# EAGLE library part IMXRT1062DV_V2 (library tft_display)
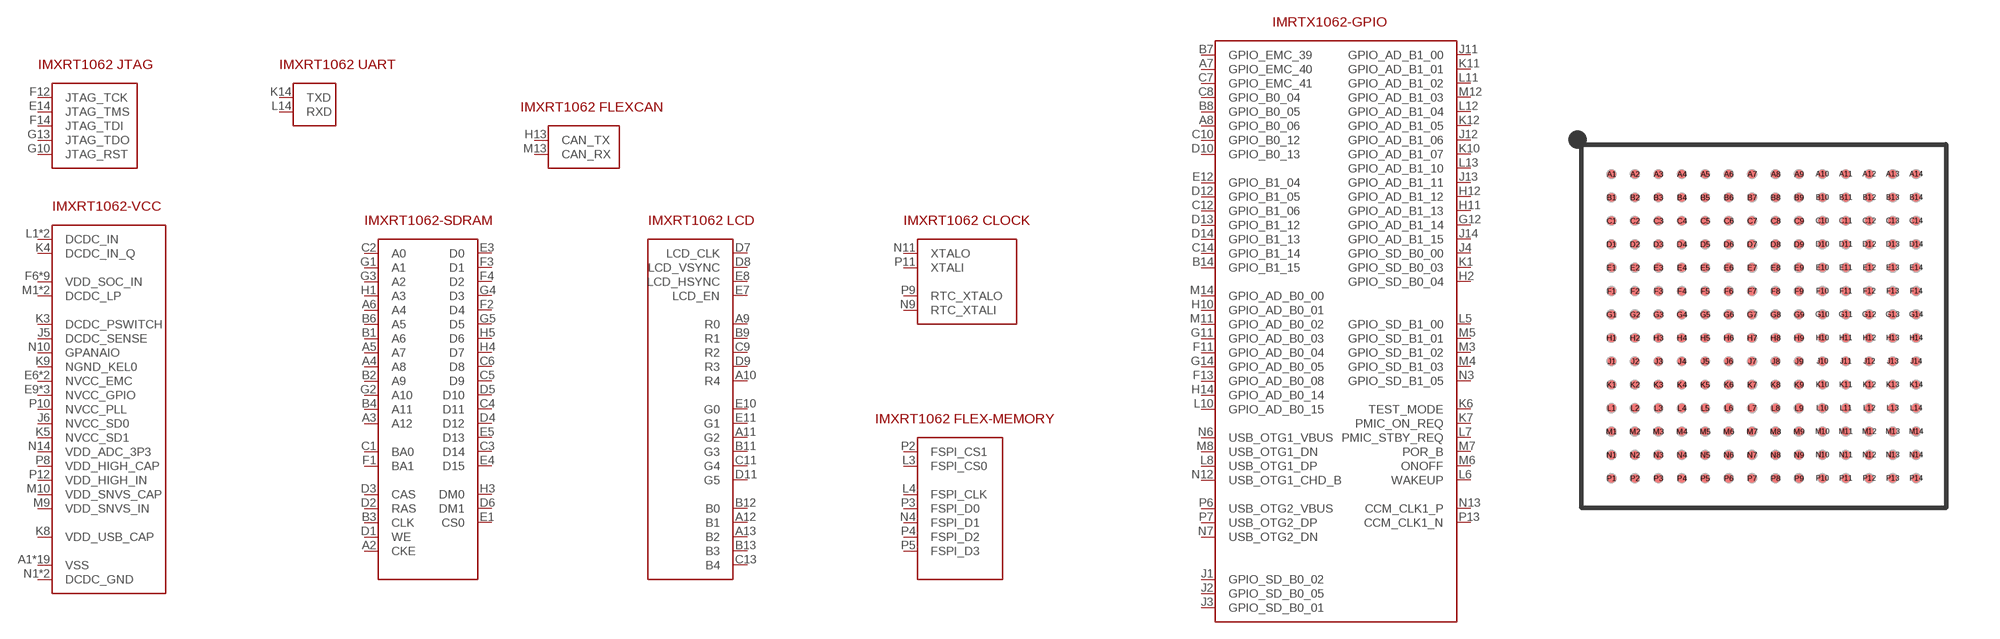
[diagram p3: symbol with the pads of IMXRT1062; footprint IMXRT1062]

Designator prefix -

## IMXRT1062DV_V2  [IMXRT1062]
A1  VSS  pwr
A2  CKE
A3  A12
A4  A8
A5  A7
A6  A4
A7  GPIO_EMC_40
A8  GPIO_B0_06
A9  R0
A10  R4
A11  G2
A12  B1
A13  B2
A14  VSS  pwr
B1  A6
B2  A9
B3  CLK
B4  A11
B5  VSS  pwr
B6  A5
B7  GPIO_EMC_39
B8  GPIO_B0_05
B9  R1
B10  VSS  pwr
B11  G3
B12  B0
B13  B3
B14  GPIO_B1_15
C1  BA0
C2  A0
C3  D14
C4  D11
C5  D9
C6  D8
C7  GPIO_EMC_41
C8  GPIO_B0_04
C9  R2
C10  GPIO_B0_12
C11  G4
C12  GPIO_B1_06
C13  B4
C14  GPIO_B1_14
D1  WE
D2  RAS
D3  CAS
D4  D12
D5  D10
D6  DM1
D7  LCD_CLK
D8  LCD_VSYNC
D9  R3
D10  GPIO_B0_13
D11  G5
D12  GPIO_B1_05
D13  GPIO_B1_12
D14  GPIO_B1_13
E1  CS0
E2  VSS  pwr
E3  D0
E4  D15
E5  D13
E6  NVCC_EMC  pwr
E7  LCD_EN
E8  LCD_HSYNC
E9  NVCC_GPIO  pwr
E10  G0
E11  G1
E12  GPIO_B1_04
E13  VSS  pwr
E14  JTAG_TMS
F1  BA1
F2  D4
F3  D1
F4  D2
F5  NVCC_EMC  pwr
F6  VDD_SOC_IN  pwr
F7  VDD_SOC_IN  pwr
F8  VDD_SOC_IN  pwr
F9  VDD_SOC_IN  pwr
F10  NVCC_GPIO  pwr
F11  GPIO_AD_B0_04
F12  JTAG_TCK
F13  GPIO_AD_B0_08
F14  JTAG_TDI
G1  A1
G2  A10
G3  A2
G4  D3
G5  D5
G6  VDD_SOC_IN  pwr
G7  VSS  pwr
G8  VSS  pwr
G9  VDD_SOC_IN  pwr
G10  JTAG_RST
G11  GPIO_AD_B0_03
G12  GPIO_AD_B1_14
G13  JTAG_TDO
G14  GPIO_AD_B0_05
H1  A3
H2  GPIO_SD_B0_04
H3  DM0
H4  D7
H5  D6
H6  VDD_SOC_IN  pwr
H7  VSS  pwr
H8  VSS  pwr
H9  VDD_SOC_IN  pwr
H10  GPIO_AD_B0_01
H11  GPIO_AD_B1_13
H12  GPIO_AD_B1_12
H13  CAN_TX
H14  GPIO_AD_B0_14
J1  GPIO_SD_B0_02
J2  GPIO_SD_B0_05
J3  GPIO_SD_B0_01
J4  GPIO_SD_B0_00
J5  DCDC_SENSE  pwr
J6  NVCC_SD0  pwr
J7  VSS  pwr
J8  VSS  pwr
J9  VDD_SOC_IN  pwr
J10  NVCC_GPIO  pwr
J11  GPIO_AD_B1_00
J12  GPIO_AD_B1_06
J13  GPIO_AD_B1_11
J14  GPIO_AD_B1_15
K1  GPIO_SD_B0_03
K2  VSS  pwr
K3  DCDC_PSWITCH  pwr
K4  DCDC_IN_Q  pwr
K5  NVCC_SD1  pwr
K6  TEST_MODE
K7  PMIC_ON_REQ
K8  VDD_USB_CAP  pwr
K9  NGND_KEL0  pwr
K10  GPIO_AD_B1_07
K11  GPIO_AD_B1_01
K12  GPIO_AD_B1_05
K13  VSS  pwr
K14  TXD
L1  DCDC_IN  pwr
L2  DCDC_IN  pwr
L3  FSPI_CS0
L4  FSPI_CLK
L5  GPIO_SD_B1_00
L6  WAKEUP
L7  PMIC_STBY_REQ
L8  USB_OTG1_DP
L9  VSS  pwr
L10  GPIO_AD_B0_15
L11  GPIO_AD_B1_02
L12  GPIO_AD_B1_04
L13  GPIO_AD_B1_10
L14  RXD
M1  DCDC_LP  pwr
M2  DCDC_LP  pwr
M3  GPIO_SD_B1_02
M4  GPIO_SD_B1_03
M5  GPIO_SD_B1_01
M6  ONOFF
M7  POR_B
M8  USB_OTG1_DN
M9  VDD_SNVS_IN  pwr
M10  VDD_SNVS_CAP  pwr
M11  GPIO_AD_B0_02
M12  GPIO_AD_B1_03
M13  CAN_RX
M14  GPIO_AD_B0_00
N1  DCDC_GND  pwr
N2  DCDC_GND  pwr
N3  GPIO_SD_B1_05
N4  FSPI_D1
N5  VSS  pwr
N6  USB_OTG1_VBUS
N7  USB_OTG2_DN
N8  VSS  pwr
N9  RTC_XTALI
N10  GPANAIO  pwr
N11  XTALO
N12  USB_OTG1_CHD_B
N13  CCM_CLK1_P
N14  VDD_ADC_3P3  pwr
P1  VSS  pwr
P2  FSPI_CS1
P3  FSPI_D0
P4  FSPI_D2
P5  FSPI_D3
P6  USB_OTG2_VBUS
P7  USB_OTG2_DP
P8  VDD_HIGH_CAP  pwr
P9  RTC_XTALO
P10  NVCC_PLL  pwr
P11  XTALI
P12  VDD_HIGH_IN  pwr
P13  CCM_CLK1_N
P14  VSS  pwr

## Footprint IMXRT1062 (pad centres in mm)
smd 0.234 x 0.234: A1 -4.225,4.225; A2 -3.575,4.225; A3 -2.925,4.225; A4 -2.275,4.225; A5 -1.625,4.225; A6 -0.975,4.225; A7 -0.325,4.225; A8 0.325,4.225; A9 0.975,4.225; A10 1.625,4.225; A11 2.275,4.225; A12 2.925,4.225; A13 3.575,4.225; A14 4.225,4.225; B1 -4.225,3.575; B2 -3.575,3.575; B3 -2.925,3.575; B4 -2.275,3.575; B5 -1.625,3.575; B6 -0.975,3.575; B7 -0.325,3.575; B8 0.325,3.575; B9 0.975,3.575; B10 1.625,3.575; B11 2.275,3.575; B12 2.925,3.575; B13 3.575,3.575; B14 4.225,3.575; C1 -4.225,2.925; C2 -3.575,2.925; C3 -2.925,2.925; C4 -2.275,2.925; C5 -1.625,2.925; C6 -0.975,2.925; C7 -0.325,2.925; C8 0.325,2.925; C9 0.975,2.925; C10 1.625,2.925; C11 2.275,2.925; C12 2.925,2.925; C13 3.575,2.925; C14 4.225,2.925; D1 -4.225,2.275; D2 -3.575,2.275; D3 -2.925,2.275; D4 -2.275,2.275; D5 -1.625,2.275; D6 -0.975,2.275; D7 -0.325,2.275; D8 0.325,2.275; D9 0.975,2.275; D10 1.625,2.275; D11 2.275,2.275; D12 2.925,2.275; D13 3.575,2.275; D14 4.225,2.275; E1 -4.225,1.625; E2 -3.575,1.625; E3 -2.925,1.625; E4 -2.275,1.625; E5 -1.625,1.625; E6 -0.975,1.625; E7 -0.325,1.625; E8 0.325,1.625; E9 0.975,1.625; E10 1.625,1.625; E11 2.275,1.625; E12 2.925,1.625; E13 3.575,1.625; E14 4.225,1.625; F1 -4.225,0.975; F2 -3.575,0.975; F3 -2.925,0.975; F4 -2.275,0.975; F5 -1.625,0.975; F6 -0.975,0.975; F7 -0.325,0.975; F8 0.325,0.975; F9 0.975,0.975; F10 1.625,0.975; F11 2.275,0.975; F12 2.925,0.975; F13 3.575,0.975; F14 4.225,0.975; G1 -4.225,0.325; G2 -3.575,0.325; G3 -2.925,0.325; G4 -2.275,0.325; G5 -1.625,0.325; G6 -0.975,0.325; G7 -0.325,0.325; G8 0.325,0.325; G9 0.975,0.325; G10 1.625,0.325; G11 2.275,0.325; G12 2.925,0.325; G13 3.575,0.325; G14 4.225,0.325; H1 -4.225,-0.325; H2 -3.575,-0.325; H3 -2.925,-0.325; H4 -2.275,-0.325; H5 -1.625,-0.325; H6 -0.975,-0.325; H7 -0.325,-0.325; H8 0.325,-0.325; H9 0.975,-0.325; H10 1.625,-0.325; H11 2.275,-0.325; H12 2.925,-0.325; H13 3.575,-0.325; H14 4.225,-0.325; J1 -4.225,-0.975; J2 -3.575,-0.975; J3 -2.925,-0.975; J4 -2.275,-0.975; J5 -1.625,-0.975; J6 -0.975,-0.975; J7 -0.325,-0.975; J8 0.325,-0.975; J9 0.975,-0.975; J10 1.625,-0.975; J11 2.275,-0.975; J12 2.925,-0.975; J13 3.575,-0.975; J14 4.225,-0.975; K1 -4.225,-1.625; K2 -3.575,-1.625; K3 -2.925,-1.625; K4 -2.275,-1.625; K5 -1.625,-1.625; K6 -0.975,-1.625; K7 -0.325,-1.625; K8 0.325,-1.625; K9 0.975,-1.625; K10 1.625,-1.625; K11 2.275,-1.625; K12 2.925,-1.625; K13 3.575,-1.625; K14 4.225,-1.625; L1 -4.225,-2.275; L2 -3.575,-2.275; L3 -2.925,-2.275; L4 -2.275,-2.275; L5 -1.625,-2.275; L6 -0.975,-2.275; L7 -0.325,-2.275; L8 0.325,-2.275; L9 0.975,-2.275; L10 1.625,-2.275; L11 2.275,-2.275; L12 2.925,-2.275; L13 3.575,-2.275; L14 4.225,-2.275; M1 -4.225,-2.925; M2 -3.575,-2.925; M3 -2.925,-2.925; M4 -2.275,-2.925; M5 -1.625,-2.925; M6 -0.975,-2.925; M7 -0.325,-2.925; M8 0.325,-2.925; M9 0.975,-2.925; M10 1.625,-2.925; M11 2.275,-2.925; M12 2.925,-2.925; M13 3.575,-2.925; M14 4.225,-2.925; N1 -4.225,-3.575; N2 -3.575,-3.575; N3 -2.925,-3.575; N4 -2.275,-3.575; N5 -1.625,-3.575; N6 -0.975,-3.575; N7 -0.325,-3.575; N8 0.325,-3.575; N9 0.975,-3.575; N10 1.625,-3.575; N11 2.275,-3.575; N12 2.925,-3.575; N13 3.575,-3.575; N14 4.225,-3.575; P1 -4.225,-4.225; P2 -3.575,-4.225; P3 -2.925,-4.225; P4 -2.275,-4.225; P5 -1.625,-4.225; P6 -0.975,-4.225; P7 -0.325,-4.225; P8 0.325,-4.225; P9 0.975,-4.225; P10 1.625,-4.225; P11 2.275,-4.225; P12 2.925,-4.225; P13 3.575,-4.225; P14 4.225,-4.225